# Altium integrated library CD4511BE.IntLib: 1 symbol
Pins are listed as number, name and electrical type; pins without a type are passive.

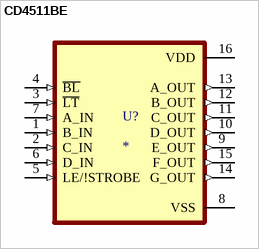
[diagram p0: symbol CD4511BE]

## CD4511BE
designator U?
CMOS BCD-to-7-Segment LED Latch Decoder Drivers 16-PDIP -55 to 125; MP: CD4511BE; MF: Texas Instruments; SnapEDA_Link: https://www.snapeda.com/parts/CD4511BE/Texas%20Instruments/view-part/586644/?ref=snap; Price: None; Purchase-URL: https://pricing.snapeda.com/search/part/CD4511BE/?ref=eda; Package: PDIP-16 Texas Instruments; Availability: Good; Check_prices: https://www.snapeda.com/parts/CD4511BE/Texas%20Instruments/view-part/586644/?ref=eda; Value: *
footprint DIP794W45P254L1969H508Q16
pins: 1 B_IN (in), 2 C_IN (in), 3 ~{LT} (in), 4 ~{BL} (in), 5 LE/!STROBE (in), 6 D_IN (in), 7 A_IN (in), 8 VSS (power), 9 E_OUT (out), 10 D_OUT (out), 11 C_OUT (out), 12 B_OUT (out), 13 A_OUT (out), 14 G_OUT (out), 15 F_OUT (out), 16 VDD (power)